# EAGLE library part TPS2051BD (library LL-Eagle Library)
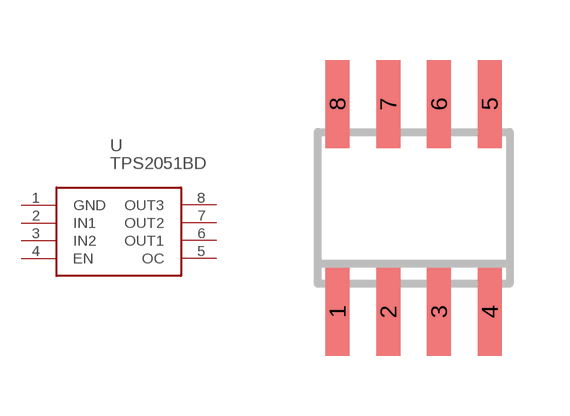
[diagram p0: symbol with the pads of SO-08; footprint SO-08]

Designator prefix -

## TPS2051BD  [SO-08]
1  GND
2  IN1
3  IN2
4  EN
5  OC
6  OUT1
7  OUT2
8  OUT3

## Footprint SO-08 (pad centres in mm)
Small Outline Narrow Plastic Gull Wing 150-mil body, package type SN
smd 0.6 x 2.2: 1 -1.905,-2.6; 2 -0.635,-2.6; 3 0.635,-2.6; 4 1.905,-2.6; 5 1.905,2.6; 6 0.635,2.6; 7 -0.635,2.6; 8 -1.905,2.6